# Altium schematic symbol library IRS44273L.SchLib: 1 symbol
Pins are listed as number, name and electrical type; pins without a type are passive.

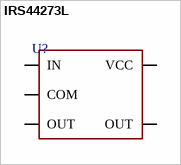
[diagram p0: symbol IRS44273L]

## IRS44273L
designator U?  (value not drawn)
IRS44273L
footprint SOT23-5 (SOT23, 5-Leads, Body 2,90x2,45mm, Pitch 0,95mm, IPC Medium Density)
pins: 1 IN "Termal Pad", 2 COM "Termal Pad", 3 OUT "Termal Pad", 4 OUT "Termal Pad", 5 VCC "Termal Pad"